# EAGLE library part ERF8-020-XX-X-D-RA (library con-samtec-er8)
ERF8 Series - Female Right Angle Edge Mount
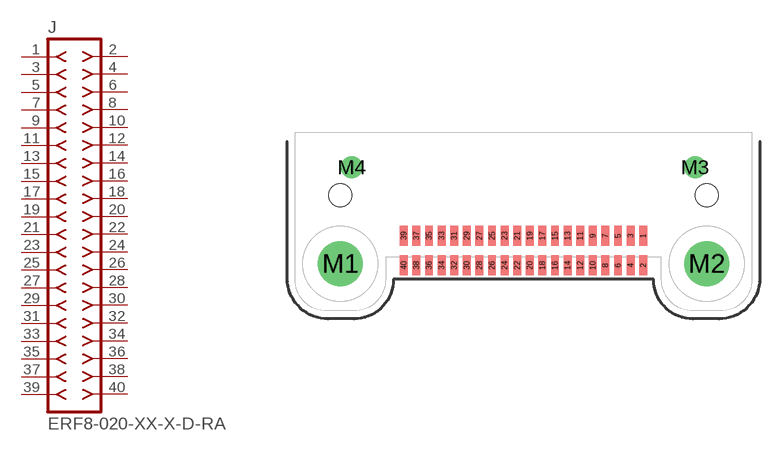
[diagram p33: symbol with the pads of ERF8-020-XX-X-D-RA; footprint ERF8-020-XX-X-D-RA]

Designator prefix J

## ERF8-020-XX-X-D-RA  [ERF8-020-XX-X-D-RA]
1  1  pas
2  2  pas
3  3  pas
4  4  pas
5  5  pas
6  6  pas
7  7  pas
8  8  pas
9  9  pas
10  10  pas
11  11  pas
12  12  pas
13  13  pas
14  14  pas
15  15  pas
16  16  pas
17  17  pas
18  18  pas
19  19  pas
20  20  pas
21  21  pas
22  22  pas
23  23  pas
24  24  pas
25  25  pas
26  26  pas
27  27  pas
28  28  pas
29  29  pas
30  30  pas
31  31  pas
32  32  pas
33  33  pas
34  34  pas
35  35  pas
36  36  pas
37  37  pas
38  38  pas
39  39  pas
40  40  pas

## Footprint ERF8-020-XX-X-D-RA (pad centres in mm)
0.8mm Edge Rate Terminal Assembly FEMALE, Double Row Right Angle, 20 Position
smd 0.5 x 1.25: 1 7.6,0.94; 2 7.6,-0.94; 3 6.8,0.94; 4 6.8,-0.94; 5 6,0.94; 6 6,-0.94; 7 5.2,0.94; 8 5.2,-0.94; 9 4.4,0.94; 10 4.4,-0.94; 11 3.6,0.94; 12 3.6,-0.94; 13 2.8,0.94; 14 2.8,-0.94; 15 2,0.94; 16 2,-0.94; 17 1.2,0.94; 18 1.2,-0.94; 19 0.4,0.94; 20 0.4,-0.94; 21 -0.4,0.94; 22 -0.4,-0.94; 23 -1.2,0.94; 24 -1.2,-0.94; 25 -2,0.94; 26 -2,-0.94; 27 -2.8,0.94; 28 -2.8,-0.94; 29 -3.6,0.94; 30 -3.6,-0.94; 31 -4.4,0.94; 32 -4.4,-0.94; 33 -5.2,0.94; 34 -5.2,-0.94; 35 -6,0.94; 36 -6,-0.94; 37 -6.8,0.94; 38 -6.8,-0.94; 39 -7.6,0.94; 40 -7.6,-0.94
drill 1.905 pad 2.41 round: M1 -11.625,-0.835; M2 11.625,-0.835
drill 0.63 pad 1.4 round: M3 10.9,5.295; M4 -10.9,5.295
hole 1.45 at -11.625,3.515
hole 1.45 at 11.625,3.515